# Altium schematic symbol library DDS.SchLib: 3 symbols
Pins are listed as number, name and electrical type; pins without a type are passive.

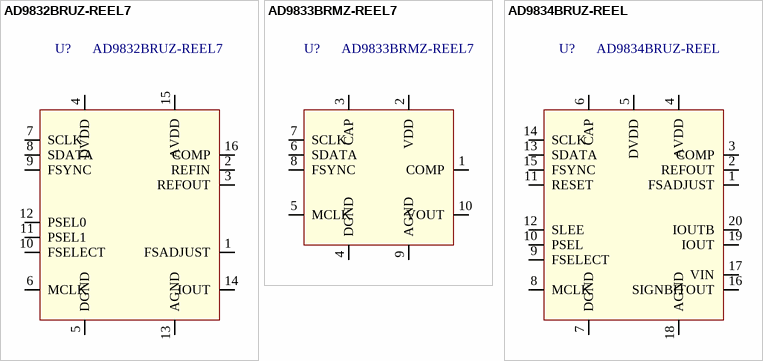
[diagram p0: symbols AD9832BRUZ-REEL7 to AD9834BRUZ-REEL]

## AD9832BRUZ-REEL7
designator U?
pins: 1 FSADJUST, 2 REFIN, 3 REFOUT, 4 DVDD, 5 DGND, 6 MCLK, 7 SCLK, 8 SDATA, 9 FSYNC, 10 FSELECT, 11 PSEL1, 12 PSEL0, 13 AGND, 14 IOUT, 15 AVDD, 16 COMP

## AD9833BRMZ-REEL7
designator U?
pins: 1 COMP, 2 VDD, 3 CAP, 4 DGND, 5 MCLK, 6 SDATA, 7 SCLK, 8 FSYNC, 9 AGND, 10 VOUT

## AD9834BRUZ-REEL
designator U?
pins: 1 FSADJUST, 2 REFOUT, 3 COMP, 4 AVDD, 5 DVDD, 6 CAP, 7 DGND, 8 MCLK, 9 FSELECT, 10 PSEL, 11 RESET, 12 SLEE, 13 SDATA, 14 SCLK, 15 FSYNC, 16 SIGNBITOUT, 17 VIN, 18 AGND, 19 IOUT, 20 IOUTB